# Altium schematic symbol library Lm358.SchLib: 1 symbol
Pins are listed as number, name and electrical type; pins without a type are passive.

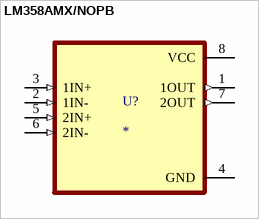
[diagram p0: symbol LM358AMX/NOPB]

## LM358AMX/NOPB
designator U?
2-Channel, 1MHz, industry standard, 32V op amp 8-SOIC 0 to 70; MP: LM358AMX/NOPB; MF: Texas Instruments; Value: *; Availability: Good; Package: SOIC-8 Texas Instruments; Purchase-URL: https://pricing.snapeda.com/search/part/LM358AMX/NOPB/?ref=eda; SnapEDA_Link: https://www.snapeda.com/parts/LM358AMX/NOPB/Texas%20Instruments/view-part/18081/?ref=snap; Check_prices: https://www.snapeda.com/parts/LM358AMX/NOPB/Texas%20Instruments/view-part/18081/?ref=eda; Price: None
footprint SOIC127P599X175-8N
pins: 1 1OUT (out), 2 1IN- (in), 3 1IN+ (in), 4 GND (power), 5 2IN+ (in), 6 2IN- (in), 7 2OUT (out), 8 VCC (power)